# Altium schematic symbol library kmilo17pet-LT_ChargePump.SchLib: 599 symbols (part 23 of 29)
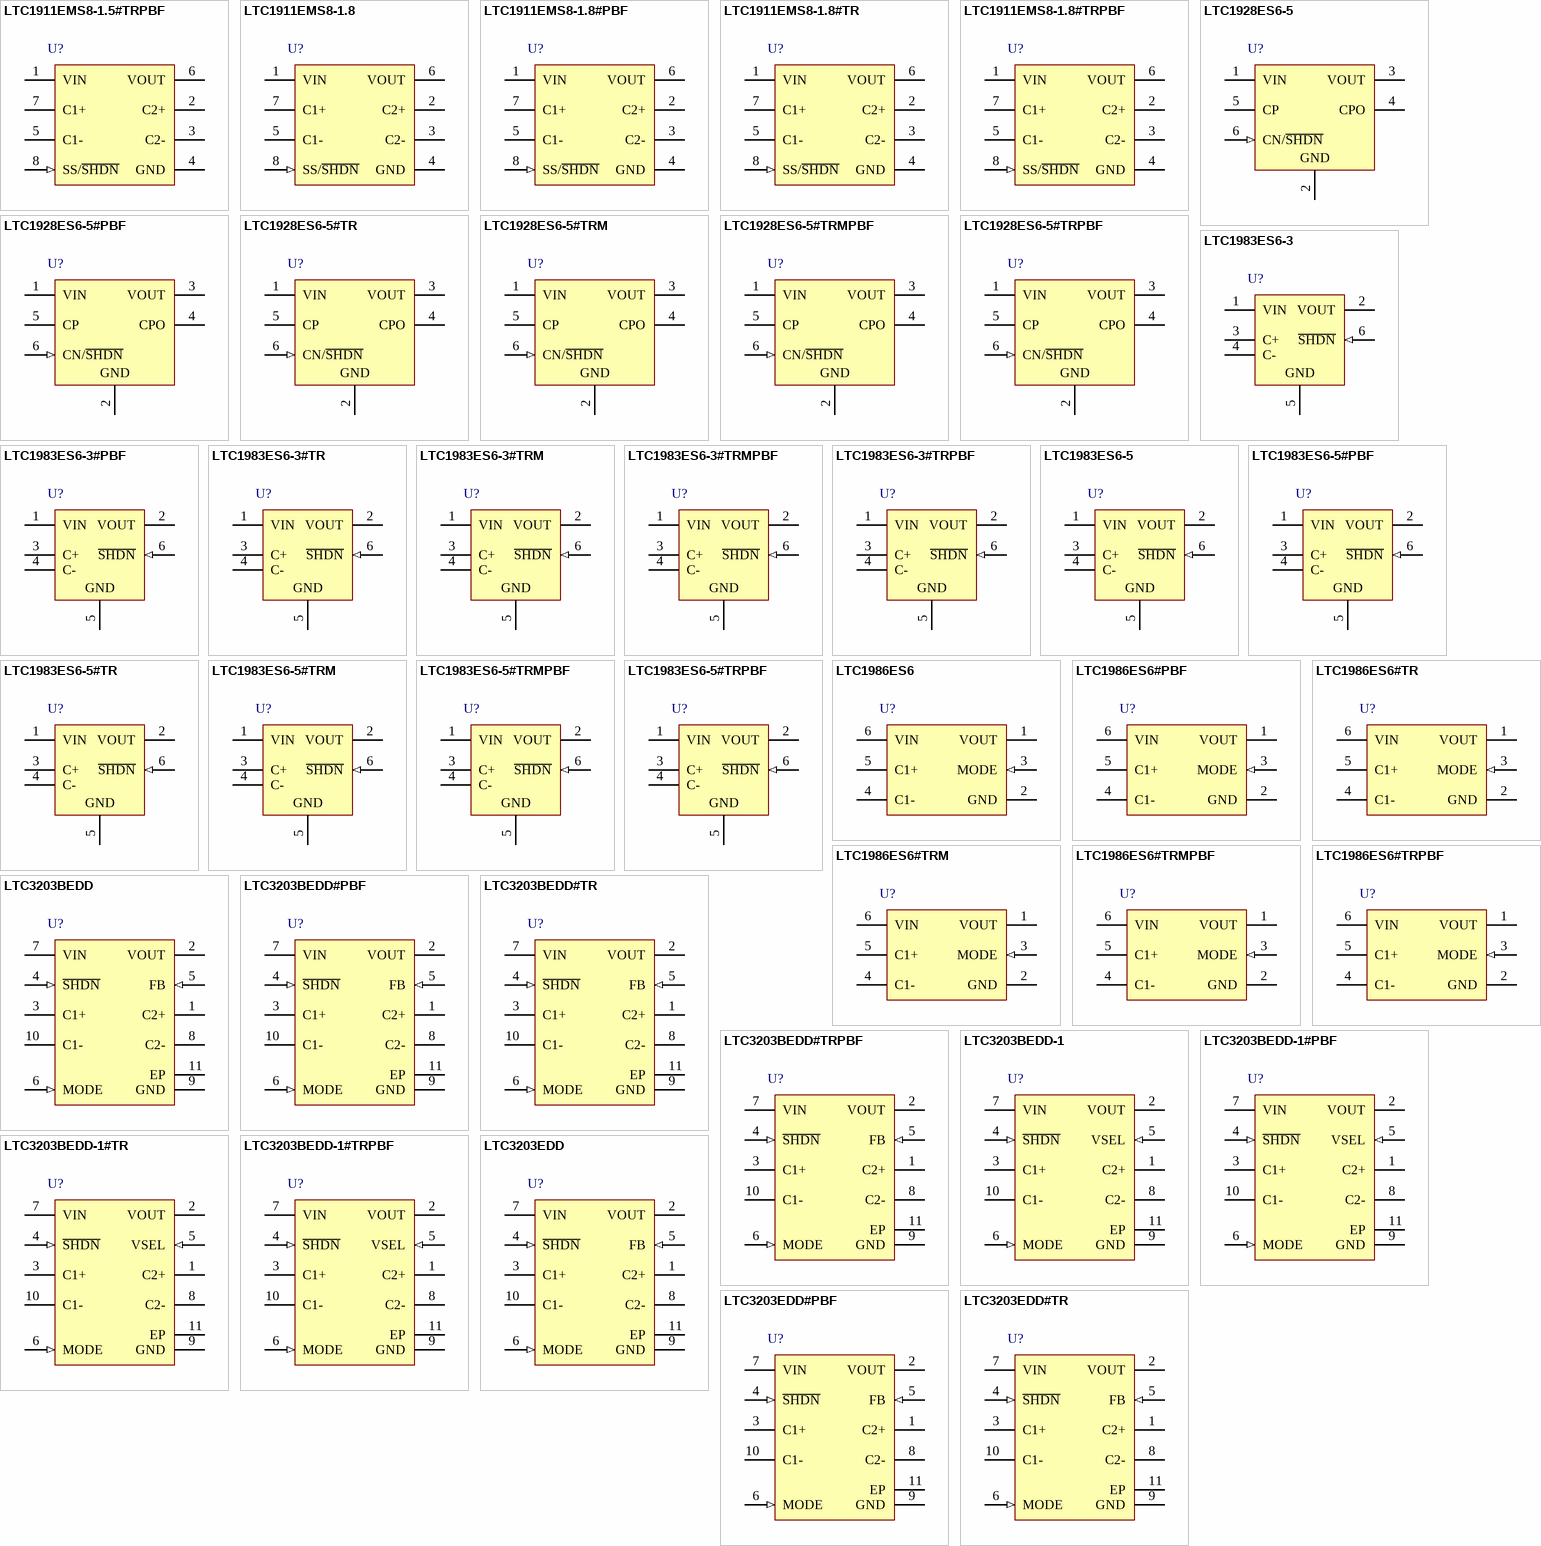
[diagram p38: symbols LTC1911EMS8-1.5#TRPBF to LTC3203EDD#TR]

## LTC3203BEDD#PBF
designator U?
500 mA Output Current Low Noise Dual Mode Step-Up Charge Pump, 2.7 to 5.5 V Vin, Adjustable Vout, 10-pin SON (DD-10), -40 to 85 degC, Pb-Free; Manufacturer: Linear Technology; PartNumber: LTC3203BEDD#PBF; Frequency(kHz): 1000; Isupply(mA): 9; Max Iout(mA): 500; Max Number of LEDs(#): 8 (parallel); Vin Max(V): 5.5; Vin Min(V): 2.7; Voutput: Adj; DatasheetVersion: Rev. A; PackageVersion: Rev. C, 06/2010; PackageReference: DD-10; PackageDescription: 10-Pin Plastic DFN, Body 3 x 3 mm, Pitch 0.5 mm; Supplier 1: Digi-Key; Supplier Part Number 1: LTC3203BEDD#PBF-ND; RoHS: TRUE; Mounting Technology: Surface Mount; Code_JEDEC: MO-229; ComponentLink1Description: Manufacturer URL; ComponentLink1URL: http://www.linear.com/; ComponentLink2Description: Datasheet; ComponentLink2URL: http://cds.linear.com/docs/en/datasheet/32031fa.pdf; ComponentLink3Description: Package Specification; ComponentLink3URL: http://cds.linear.com/docs/en/packaging/DFN_10_05-08-1699.pdf
footprint LT-DD-10_V (SON, 10-Leads, Body 3x3mm, Pitch 0.5mm, Thermal Pad 2.38x1.65mm)
pins: 1 C2+ "Flying Capacitor 2 Positive Terminal (C2).", 2 VOUT (power) "Regulated Output Voltage. VOUT should be bypassed with a low ESR ceramic capacitor as close to the pin as possible for best performance. The capacitor should have greater than 4.7uF capacitance under all conditions.", 3 C1+ "Flying Capacitor 1 Positive Terminal (C1).", 4 ~{SHDN} (in) "Active Low Shutdown Input. A low on S\H\D\N\ puts the LTC3203/LTC3203-1/LTC3203B/LTC3203B-1 in low current shutdown mode. Do not float the S\H\D\N\ pin.", 5 FB (in) "Feedback. The voltage on this pin is compared to the internal reference voltage (0.91V) by the error amplifier to keep the output in regulation. An external resistor divider is required between VOUT and FB to program the (See Datasheet)", 6 MODE (in) "Mode Selection Input. The LTC3203/ LTC3203-1/LTC3203B/LTC3203B-1 operates in 1.5x mode if the MODE pin is greater than VMODEH, which gives higher charge pump efficiency. If the MODE pin is less than VMODEL, the (See Datasheet)", 7 VIN (power) "Input Supply Voltage. VIN should be bypassed with a more than 2.2uF low ESR ceramic capacitor to GND.", 8 C2- "Flying Capacitor 2 Negative Terminal (C2).", 9 GND (power) "Ground. This pin should be connected directly to a low impedance ground plane.", 10 C1- "Flying Capacitor 1 Negative Terminal (C1).", 11 EP (power) "Ground. This pin must be soldered to the PCB for electrical contact and rated thermal performance."

## LTC3203BEDD#TR
designator U?
500 mA Output Current Low Noise Dual Mode Step-Up Charge Pump, 2.7 to 5.5 V Vin, Adjustable Vout, 10-pin SON (DD-10), -40 to 85 degC, Tape and Reel; Manufacturer: Linear Technology; PartNumber: LTC3203BEDD#TR; Frequency(kHz): 1000; Isupply(mA): 9; Max Iout(mA): 500; Max Number of LEDs(#): 8 (parallel); Vin Max(V): 5.5; Vin Min(V): 2.7; Voutput: Adj; DatasheetVersion: Rev. A; PackageVersion: Rev. C, 06/2010; PackageReference: DD-10; PackageDescription: 10-Pin Plastic DFN, Body 3 x 3 mm, Pitch 0.5 mm; Packing: Tape and Reel; RoHS: FALSE; Mounting Technology: Surface Mount; Code_JEDEC: MO-229; ComponentLink1Description: Manufacturer URL; ComponentLink1URL: http://www.linear.com/; ComponentLink2Description: Datasheet; ComponentLink2URL: http://cds.linear.com/docs/en/datasheet/32031fa.pdf; ComponentLink3Description: Package Specification; ComponentLink3URL: http://cds.linear.com/docs/en/packaging/DFN_10_05-08-1699.pdf
footprint LT-DD-10_V (SON, 10-Leads, Body 3x3mm, Pitch 0.5mm, Thermal Pad 2.38x1.65mm)
pins: 1 C2+ "Flying Capacitor 2 Positive Terminal (C2).", 2 VOUT (power) "Regulated Output Voltage. VOUT should be bypassed with a low ESR ceramic capacitor as close to the pin as possible for best performance. The capacitor should have greater than 4.7uF capacitance under all conditions.", 3 C1+ "Flying Capacitor 1 Positive Terminal (C1).", 4 ~{SHDN} (in) "Active Low Shutdown Input. A low on S\H\D\N\ puts the LTC3203/LTC3203-1/LTC3203B/LTC3203B-1 in low current shutdown mode. Do not float the S\H\D\N\ pin.", 5 FB (in) "Feedback. The voltage on this pin is compared to the internal reference voltage (0.91V) by the error amplifier to keep the output in regulation. An external resistor divider is required between VOUT and FB to program the (See Datasheet)", 6 MODE (in) "Mode Selection Input. The LTC3203/ LTC3203-1/LTC3203B/LTC3203B-1 operates in 1.5x mode if the MODE pin is greater than VMODEH, which gives higher charge pump efficiency. If the MODE pin is less than VMODEL, the (See Datasheet)", 7 VIN (power) "Input Supply Voltage. VIN should be bypassed with a more than 2.2uF low ESR ceramic capacitor to GND.", 8 C2- "Flying Capacitor 2 Negative Terminal (C2).", 9 GND (power) "Ground. This pin should be connected directly to a low impedance ground plane.", 10 C1- "Flying Capacitor 1 Negative Terminal (C1).", 11 EP (power) "Ground. This pin must be soldered to the PCB for electrical contact and rated thermal performance."

## LTC3203BEDD#TRPBF
designator U?
500 mA Output Current Low Noise Dual Mode Step-Up Charge Pump, 2.7 to 5.5 V Vin, Adjustable Vout, 10-pin SON (DD-10), -40 to 85 degC, Pb-Free, Tape and Reel; Manufacturer: Linear Technology; PartNumber: LTC3203BEDD#TRPBF; Frequency(kHz): 1000; Isupply(mA): 9; Max Iout(mA): 500; Max Number of LEDs(#): 8 (parallel); Vin Max(V): 5.5; Vin Min(V): 2.7; Voutput: Adj; DatasheetVersion: Rev. A; PackageVersion: Rev. C, 06/2010; PackageReference: DD-10; PackageDescription: 10-Pin Plastic DFN, Body 3 x 3 mm, Pitch 0.5 mm; Supplier 1: Digi-Key; Supplier Part Number 1: LTC3203BEDD#TRPBF-ND; Packing: Tape and Reel; RoHS: TRUE; Mounting Technology: Surface Mount; Code_JEDEC: MO-229; ComponentLink1Description: Manufacturer URL; ComponentLink1URL: http://www.linear.com/; ComponentLink2Description: Datasheet; ComponentLink2URL: http://cds.linear.com/docs/en/datasheet/32031fa.pdf; ComponentLink3Description: Package Specification; ComponentLink3URL: http://cds.linear.com/docs/en/packaging/DFN_10_05-08-1699.pdf
footprint LT-DD-10_V (SON, 10-Leads, Body 3x3mm, Pitch 0.5mm, Thermal Pad 2.38x1.65mm)
pins: 1 C2+ "Flying Capacitor 2 Positive Terminal (C2).", 2 VOUT (power) "Regulated Output Voltage. VOUT should be bypassed with a low ESR ceramic capacitor as close to the pin as possible for best performance. The capacitor should have greater than 4.7uF capacitance under all conditions.", 3 C1+ "Flying Capacitor 1 Positive Terminal (C1).", 4 ~{SHDN} (in) "Active Low Shutdown Input. A low on S\H\D\N\ puts the LTC3203/LTC3203-1/LTC3203B/LTC3203B-1 in low current shutdown mode. Do not float the S\H\D\N\ pin.", 5 FB (in) "Feedback. The voltage on this pin is compared to the internal reference voltage (0.91V) by the error amplifier to keep the output in regulation. An external resistor divider is required between VOUT and FB to program the (See Datasheet)", 6 MODE (in) "Mode Selection Input. The LTC3203/ LTC3203-1/LTC3203B/LTC3203B-1 operates in 1.5x mode if the MODE pin is greater than VMODEH, which gives higher charge pump efficiency. If the MODE pin is less than VMODEL, the (See Datasheet)", 7 VIN (power) "Input Supply Voltage. VIN should be bypassed with a more than 2.2uF low ESR ceramic capacitor to GND.", 8 C2- "Flying Capacitor 2 Negative Terminal (C2).", 9 GND (power) "Ground. This pin should be connected directly to a low impedance ground plane.", 10 C1- "Flying Capacitor 1 Negative Terminal (C1).", 11 EP (power) "Ground. This pin must be soldered to the PCB for electrical contact and rated thermal performance."

## LTC3203BEDD-1
designator U?
500 mA Output Current Low Noise Dual Mode Step-Up Charge Pump, 2.7 to 5.5 V Vin, 5 V Vout, 10-pin SON (DD-10), -40 to 85 degC; Manufacturer: Linear Technology; PartNumber: LTC3203BEDD-1; Frequency(kHz): 1000; Isupply(mA): 9; Max Iout(mA): 500; Max Number of LEDs(#): 8 (parallel); Vin Max(V): 5.5; Vin Min(V): 2.7; Voutput: 5V; DatasheetVersion: Rev. A; PackageVersion: Rev. C, 06/2010; PackageReference: DD-10; PackageDescription: 10-Pin Plastic DFN, Body 3 x 3 mm, Pitch 0.5 mm; RoHS: FALSE; Mounting Technology: Surface Mount; Code_JEDEC: MO-229; ComponentLink1Description: Manufacturer URL; ComponentLink1URL: http://www.linear.com/; ComponentLink2Description: Datasheet; ComponentLink2URL: http://cds.linear.com/docs/en/datasheet/32031fa.pdf; ComponentLink3Description: Package Specification; ComponentLink3URL: http://cds.linear.com/docs/en/packaging/DFN_10_05-08-1699.pdf
footprint LT-DD-10_V (SON, 10-Leads, Body 3x3mm, Pitch 0.5mm, Thermal Pad 2.38x1.65mm)
pins: 1 C2+ "Flying Capacitor 2 Positive Terminal (C2).", 2 VOUT (power) "Regulated Output Voltage. VOUT should be bypassed with a low ESR ceramic capacitor as close to the pin as possible for best performance. The capacitor should have greater than 4.7uF capacitance under all conditions.", 3 C1+ "Flying Capacitor 1 Positive Terminal (C1).", 4 ~{SHDN} (in) "Active Low Shutdown Input. A low on S\H\D\N\ puts the LTC3203/LTC3203-1/LTC3203B/LTC3203B-1 in low current shutdown mode. Do not float the S\H\D\N\ pin.", 5 VSEL (in) "Output Voltage Selection Input. A logic 0 at VSEL sets the regulated VOUT to 4.5V; and a logic 1 sets the regulated VOUT to 5V. Do not float the VSEL pin.", 6 MODE (in) "Mode Selection Input. The LTC3203/ LTC3203-1/LTC3203B/LTC3203B-1 operates in 1.5x mode if the MODE pin is greater than VMODEH, which gives higher charge pump efficiency. If the MODE pin is less than VMODEL, the (See Datasheet)", 7 VIN (power) "Input Supply Voltage. VIN should be bypassed with a more than 2.2uF low ESR ceramic capacitor to GND.", 8 C2- "Flying Capacitor 2 Negative Terminal (C2).", 9 GND (power) "Ground. This pin should be connected directly to a low impedance ground plane.", 10 C1- "Flying Capacitor 1 Negative Terminal (C1).", 11 EP (power) "Ground. This pin must be soldered to the PCB for electrical contact and rated thermal performance."

## LTC3203BEDD-1#PBF
designator U?
500 mA Output Current Low Noise Dual Mode Step-Up Charge Pump, 2.7 to 5.5 V Vin, 5 V Vout, 10-pin SON (DD-10), -40 to 85 degC, Pb-Free; Manufacturer: Linear Technology; PartNumber: LTC3203BEDD-1#PBF; Frequency(kHz): 1000; Isupply(mA): 9; Max Iout(mA): 500; Max Number of LEDs(#): 8 (parallel); Vin Max(V): 5.5; Vin Min(V): 2.7; Voutput: 5V; DatasheetVersion: Rev. A; PackageVersion: Rev. C, 06/2010; PackageReference: DD-10; PackageDescription: 10-Pin Plastic DFN, Body 3 x 3 mm, Pitch 0.5 mm; Supplier 1: Digi-Key; Supplier Part Number 1: LTC3203BEDD-1#PBF-ND; Supplier 2: Newark; Supplier Part Number 2: 56M7339; RoHS: TRUE; Mounting Technology: Surface Mount; Code_JEDEC: MO-229; ComponentLink1Description: Manufacturer URL; ComponentLink1URL: http://www.linear.com/; ComponentLink2Description: Datasheet; ComponentLink2URL: http://cds.linear.com/docs/en/datasheet/32031fa.pdf; ComponentLink3Description: Package Specification; ComponentLink3URL: http://cds.linear.com/docs/en/packaging/DFN_10_05-08-1699.pdf
footprint LT-DD-10_V (SON, 10-Leads, Body 3x3mm, Pitch 0.5mm, Thermal Pad 2.38x1.65mm)
pins: 1 C2+ "Flying Capacitor 2 Positive Terminal (C2).", 2 VOUT (power) "Regulated Output Voltage. VOUT should be bypassed with a low ESR ceramic capacitor as close to the pin as possible for best performance. The capacitor should have greater than 4.7uF capacitance under all conditions.", 3 C1+ "Flying Capacitor 1 Positive Terminal (C1).", 4 ~{SHDN} (in) "Active Low Shutdown Input. A low on S\H\D\N\ puts the LTC3203/LTC3203-1/LTC3203B/LTC3203B-1 in low current shutdown mode. Do not float the S\H\D\N\ pin.", 5 VSEL (in) "Output Voltage Selection Input. A logic 0 at VSEL sets the regulated VOUT to 4.5V; and a logic 1 sets the regulated VOUT to 5V. Do not float the VSEL pin.", 6 MODE (in) "Mode Selection Input. The LTC3203/ LTC3203-1/LTC3203B/LTC3203B-1 operates in 1.5x mode if the MODE pin is greater than VMODEH, which gives higher charge pump efficiency. If the MODE pin is less than VMODEL, the (See Datasheet)", 7 VIN (power) "Input Supply Voltage. VIN should be bypassed with a more than 2.2uF low ESR ceramic capacitor to GND.", 8 C2- "Flying Capacitor 2 Negative Terminal (C2).", 9 GND (power) "Ground. This pin should be connected directly to a low impedance ground plane.", 10 C1- "Flying Capacitor 1 Negative Terminal (C1).", 11 EP (power) "Ground. This pin must be soldered to the PCB for electrical contact and rated thermal performance."

## LTC3203BEDD-1#TR
designator U?
500 mA Output Current Low Noise Dual Mode Step-Up Charge Pump, 2.7 to 5.5 V Vin, 5 V Vout, 10-pin SON (DD-10), -40 to 85 degC, Tape and Reel; Manufacturer: Linear Technology; PartNumber: LTC3203BEDD-1#TR; Frequency(kHz): 1000; Isupply(mA): 9; Max Iout(mA): 500; Max Number of LEDs(#): 8 (parallel); Vin Max(V): 5.5; Vin Min(V): 2.7; Voutput: 5V; DatasheetVersion: Rev. A; PackageVersion: Rev. C, 06/2010; PackageReference: DD-10; PackageDescription: 10-Pin Plastic DFN, Body 3 x 3 mm, Pitch 0.5 mm; Packing: Tape and Reel; RoHS: FALSE; Mounting Technology: Surface Mount; Code_JEDEC: MO-229; ComponentLink1Description: Manufacturer URL; ComponentLink1URL: http://www.linear.com/; ComponentLink2Description: Datasheet; ComponentLink2URL: http://cds.linear.com/docs/en/datasheet/32031fa.pdf; ComponentLink3Description: Package Specification; ComponentLink3URL: http://cds.linear.com/docs/en/packaging/DFN_10_05-08-1699.pdf
footprint LT-DD-10_V (SON, 10-Leads, Body 3x3mm, Pitch 0.5mm, Thermal Pad 2.38x1.65mm)
pins: 1 C2+ "Flying Capacitor 2 Positive Terminal (C2).", 2 VOUT (power) "Regulated Output Voltage. VOUT should be bypassed with a low ESR ceramic capacitor as close to the pin as possible for best performance. The capacitor should have greater than 4.7uF capacitance under all conditions.", 3 C1+ "Flying Capacitor 1 Positive Terminal (C1).", 4 ~{SHDN} (in) "Active Low Shutdown Input. A low on S\H\D\N\ puts the LTC3203/LTC3203-1/LTC3203B/LTC3203B-1 in low current shutdown mode. Do not float the S\H\D\N\ pin.", 5 VSEL (in) "Output Voltage Selection Input. A logic 0 at VSEL sets the regulated VOUT to 4.5V; and a logic 1 sets the regulated VOUT to 5V. Do not float the VSEL pin.", 6 MODE (in) "Mode Selection Input. The LTC3203/ LTC3203-1/LTC3203B/LTC3203B-1 operates in 1.5x mode if the MODE pin is greater than VMODEH, which gives higher charge pump efficiency. If the MODE pin is less than VMODEL, the (See Datasheet)", 7 VIN (power) "Input Supply Voltage. VIN should be bypassed with a more than 2.2uF low ESR ceramic capacitor to GND.", 8 C2- "Flying Capacitor 2 Negative Terminal (C2).", 9 GND (power) "Ground. This pin should be connected directly to a low impedance ground plane.", 10 C1- "Flying Capacitor 1 Negative Terminal (C1).", 11 EP (power) "Ground. This pin must be soldered to the PCB for electrical contact and rated thermal performance."

## LTC3203BEDD-1#TRPBF
designator U?
500 mA Output Current Low Noise Dual Mode Step-Up Charge Pump, 2.7 to 5.5 V Vin, 5 V Vout, 10-pin SON (DD-10), -40 to 85 degC, Pb-Free, Tape and Reel; Manufacturer: Linear Technology; PartNumber: LTC3203BEDD-1#TRPBF; Frequency(kHz): 1000; Isupply(mA): 9; Max Iout(mA): 500; Max Number of LEDs(#): 8 (parallel); Vin Max(V): 5.5; Vin Min(V): 2.7; Voutput: 5V; DatasheetVersion: Rev. A; PackageVersion: Rev. C, 06/2010; PackageReference: DD-10; PackageDescription: 10-Pin Plastic DFN, Body 3 x 3 mm, Pitch 0.5 mm; Supplier 1: Digi-Key; Supplier Part Number 1: LTC3203BEDD-1#TRPBF-ND; Supplier 2: Newark; Supplier Part Number 2: 56M7341; Packing: Tape and Reel; RoHS: TRUE; Mounting Technology: Surface Mount; Code_JEDEC: MO-229; ComponentLink1Description: Manufacturer URL; ComponentLink1URL: http://www.linear.com/; ComponentLink2Description: Datasheet; ComponentLink2URL: http://cds.linear.com/docs/en/datasheet/32031fa.pdf; ComponentLink3Description: Package Specification; ComponentLink3URL: http://cds.linear.com/docs/en/packaging/DFN_10_05-08-1699.pdf
footprint LT-DD-10_V (SON, 10-Leads, Body 3x3mm, Pitch 0.5mm, Thermal Pad 2.38x1.65mm)
pins: 1 C2+ "Flying Capacitor 2 Positive Terminal (C2).", 2 VOUT (power) "Regulated Output Voltage. VOUT should be bypassed with a low ESR ceramic capacitor as close to the pin as possible for best performance. The capacitor should have greater than 4.7uF capacitance under all conditions.", 3 C1+ "Flying Capacitor 1 Positive Terminal (C1).", 4 ~{SHDN} (in) "Active Low Shutdown Input. A low on S\H\D\N\ puts the LTC3203/LTC3203-1/LTC3203B/LTC3203B-1 in low current shutdown mode. Do not float the S\H\D\N\ pin.", 5 VSEL (in) "Output Voltage Selection Input. A logic 0 at VSEL sets the regulated VOUT to 4.5V; and a logic 1 sets the regulated VOUT to 5V. Do not float the VSEL pin.", 6 MODE (in) "Mode Selection Input. The LTC3203/ LTC3203-1/LTC3203B/LTC3203B-1 operates in 1.5x mode if the MODE pin is greater than VMODEH, which gives higher charge pump efficiency. If the MODE pin is less than VMODEL, the (See Datasheet)", 7 VIN (power) "Input Supply Voltage. VIN should be bypassed with a more than 2.2uF low ESR ceramic capacitor to GND.", 8 C2- "Flying Capacitor 2 Negative Terminal (C2).", 9 GND (power) "Ground. This pin should be connected directly to a low impedance ground plane.", 10 C1- "Flying Capacitor 1 Negative Terminal (C1).", 11 EP (power) "Ground. This pin must be soldered to the PCB for electrical contact and rated thermal performance."

## LTC3203EDD
designator U?
500 mA Output Current Low Noise Dual Mode Step-Up Charge Pump, 2.7 to 5.5 V Vin, Adjustable Vout, 10-pin SON (DD-10), -40 to 85 degC; Manufacturer: Linear Technology; PartNumber: LTC3203EDD; Frequency(kHz): 1000; Isupply(mA): 0.12; Max Iout(mA): 500; Max Number of LEDs(#): 8 (parallel); Vin Max(V): 5.5; Vin Min(V): 2.7; Voutput: Adj; DatasheetVersion: Rev. A; PackageVersion: Rev. C, 06/2010; PackageReference: DD-10; PackageDescription: 10-Pin Plastic DFN, Body 3 x 3 mm, Pitch 0.5 mm; RoHS: FALSE; Mounting Technology: Surface Mount; Code_JEDEC: MO-229; ComponentLink1Description: Manufacturer URL; ComponentLink1URL: http://www.linear.com/; ComponentLink2Description: Datasheet; ComponentLink2URL: http://cds.linear.com/docs/en/datasheet/32031fa.pdf; ComponentLink3Description: Package Specification; ComponentLink3URL: http://cds.linear.com/docs/en/packaging/DFN_10_05-08-1699.pdf
footprint LT-DD-10_V (SON, 10-Leads, Body 3x3mm, Pitch 0.5mm, Thermal Pad 2.38x1.65mm)
pins: 1 C2+ "Flying Capacitor 2 Positive Terminal (C2).", 2 VOUT (power) "Regulated Output Voltage. VOUT should be bypassed with a low ESR ceramic capacitor as close to the pin as possible for best performance. The capacitor should have greater than 4.7uF capacitance under all conditions.", 3 C1+ "Flying Capacitor 1 Positive Terminal (C1).", 4 ~{SHDN} (in) "Active Low Shutdown Input. A low on S\H\D\N\ puts the LTC3203/LTC3203-1/LTC3203B/LTC3203B-1 in low current shutdown mode. Do not float the S\H\D\N\ pin.", 5 FB (in) "Feedback. The voltage on this pin is compared to the internal reference voltage (0.91V) by the error amplifier to keep the output in regulation. An external resistor divider is required between VOUT and FB to program the (See Datasheet)", 6 MODE (in) "Mode Selection Input. The LTC3203/ LTC3203-1/LTC3203B/LTC3203B-1 operates in 1.5x mode if the MODE pin is greater than VMODEH, which gives higher charge pump efficiency. If the MODE pin is less than VMODEL, the (See Datasheet)", 7 VIN (power) "Input Supply Voltage. VIN should be bypassed with a more than 2.2uF low ESR ceramic capacitor to GND.", 8 C2- "Flying Capacitor 2 Negative Terminal (C2).", 9 GND (power) "Ground. This pin should be connected directly to a low impedance ground plane.", 10 C1- "Flying Capacitor 1 Negative Terminal (C1).", 11 EP (power) "Ground. This pin must be soldered to the PCB for electrical contact and rated thermal performance."

## LTC3203EDD#PBF
designator U?
500 mA Output Current Low Noise Dual Mode Step-Up Charge Pump, 2.7 to 5.5 V Vin, Adjustable Vout, 10-pin SON (DD-10), -40 to 85 degC, Pb-Free; Manufacturer: Linear Technology; PartNumber: LTC3203EDD#PBF; Frequency(kHz): 1000; Isupply(mA): 0.12; Max Iout(mA): 500; Max Number of LEDs(#): 8 (parallel); Vin Max(V): 5.5; Vin Min(V): 2.7; Voutput: Adj; DatasheetVersion: Rev. A; PackageVersion: Rev. C, 06/2010; PackageReference: DD-10; PackageDescription: 10-Pin Plastic DFN, Body 3 x 3 mm, Pitch 0.5 mm; Supplier 1: Digi-Key; Supplier Part Number 1: LTC3203EDD#PBF-ND; RoHS: TRUE; Mounting Technology: Surface Mount; Code_JEDEC: MO-229; ComponentLink1Description: Manufacturer URL; ComponentLink1URL: http://www.linear.com/; ComponentLink2Description: Datasheet; ComponentLink2URL: http://cds.linear.com/docs/en/datasheet/32031fa.pdf; ComponentLink3Description: Package Specification; ComponentLink3URL: http://cds.linear.com/docs/en/packaging/DFN_10_05-08-1699.pdf
footprint LT-DD-10_V (SON, 10-Leads, Body 3x3mm, Pitch 0.5mm, Thermal Pad 2.38x1.65mm)
pins: 1 C2+ "Flying Capacitor 2 Positive Terminal (C2).", 2 VOUT (power) "Regulated Output Voltage. VOUT should be bypassed with a low ESR ceramic capacitor as close to the pin as possible for best performance. The capacitor should have greater than 4.7uF capacitance under all conditions.", 3 C1+ "Flying Capacitor 1 Positive Terminal (C1).", 4 ~{SHDN} (in) "Active Low Shutdown Input. A low on S\H\D\N\ puts the LTC3203/LTC3203-1/LTC3203B/LTC3203B-1 in low current shutdown mode. Do not float the S\H\D\N\ pin.", 5 FB (in) "Feedback. The voltage on this pin is compared to the internal reference voltage (0.91V) by the error amplifier to keep the output in regulation. An external resistor divider is required between VOUT and FB to program the (See Datasheet)", 6 MODE (in) "Mode Selection Input. The LTC3203/ LTC3203-1/LTC3203B/LTC3203B-1 operates in 1.5x mode if the MODE pin is greater than VMODEH, which gives higher charge pump efficiency. If the MODE pin is less than VMODEL, the (See Datasheet)", 7 VIN (power) "Input Supply Voltage. VIN should be bypassed with a more than 2.2uF low ESR ceramic capacitor to GND.", 8 C2- "Flying Capacitor 2 Negative Terminal (C2).", 9 GND (power) "Ground. This pin should be connected directly to a low impedance ground plane.", 10 C1- "Flying Capacitor 1 Negative Terminal (C1).", 11 EP (power) "Ground. This pin must be soldered to the PCB for electrical contact and rated thermal performance."

## LTC3203EDD#TR
designator U?
500 mA Output Current Low Noise Dual Mode Step-Up Charge Pump, 2.7 to 5.5 V Vin, Adjustable Vout, 10-pin SON (DD-10), -40 to 85 degC, Tape and Reel; Manufacturer: Linear Technology; PartNumber: LTC3203EDD#TR; Frequency(kHz): 1000; Isupply(mA): 0.12; Max Iout(mA): 500; Max Number of LEDs(#): 8 (parallel); Vin Max(V): 5.5; Vin Min(V): 2.7; Voutput: Adj; DatasheetVersion: Rev. A; PackageVersion: Rev. C, 06/2010; PackageReference: DD-10; PackageDescription: 10-Pin Plastic DFN, Body 3 x 3 mm, Pitch 0.5 mm; Packing: Tape and Reel; RoHS: FALSE; Mounting Technology: Surface Mount; Code_JEDEC: MO-229; ComponentLink1Description: Manufacturer URL; ComponentLink1URL: http://www.linear.com/; ComponentLink2Description: Datasheet; ComponentLink2URL: http://cds.linear.com/docs/en/datasheet/32031fa.pdf; ComponentLink3Description: Package Specification; ComponentLink3URL: http://cds.linear.com/docs/en/packaging/DFN_10_05-08-1699.pdf
footprint LT-DD-10_V (SON, 10-Leads, Body 3x3mm, Pitch 0.5mm, Thermal Pad 2.38x1.65mm)
pins: 1 C2+ "Flying Capacitor 2 Positive Terminal (C2).", 2 VOUT (power) "Regulated Output Voltage. VOUT should be bypassed with a low ESR ceramic capacitor as close to the pin as possible for best performance. The capacitor should have greater than 4.7uF capacitance under all conditions.", 3 C1+ "Flying Capacitor 1 Positive Terminal (C1).", 4 ~{SHDN} (in) "Active Low Shutdown Input. A low on S\H\D\N\ puts the LTC3203/LTC3203-1/LTC3203B/LTC3203B-1 in low current shutdown mode. Do not float the S\H\D\N\ pin.", 5 FB (in) "Feedback. The voltage on this pin is compared to the internal reference voltage (0.91V) by the error amplifier to keep the output in regulation. An external resistor divider is required between VOUT and FB to program the (See Datasheet)", 6 MODE (in) "Mode Selection Input. The LTC3203/ LTC3203-1/LTC3203B/LTC3203B-1 operates in 1.5x mode if the MODE pin is greater than VMODEH, which gives higher charge pump efficiency. If the MODE pin is less than VMODEL, the (See Datasheet)", 7 VIN (power) "Input Supply Voltage. VIN should be bypassed with a more than 2.2uF low ESR ceramic capacitor to GND.", 8 C2- "Flying Capacitor 2 Negative Terminal (C2).", 9 GND (power) "Ground. This pin should be connected directly to a low impedance ground plane.", 10 C1- "Flying Capacitor 1 Negative Terminal (C1).", 11 EP (power) "Ground. This pin must be soldered to the PCB for electrical contact and rated thermal performance."

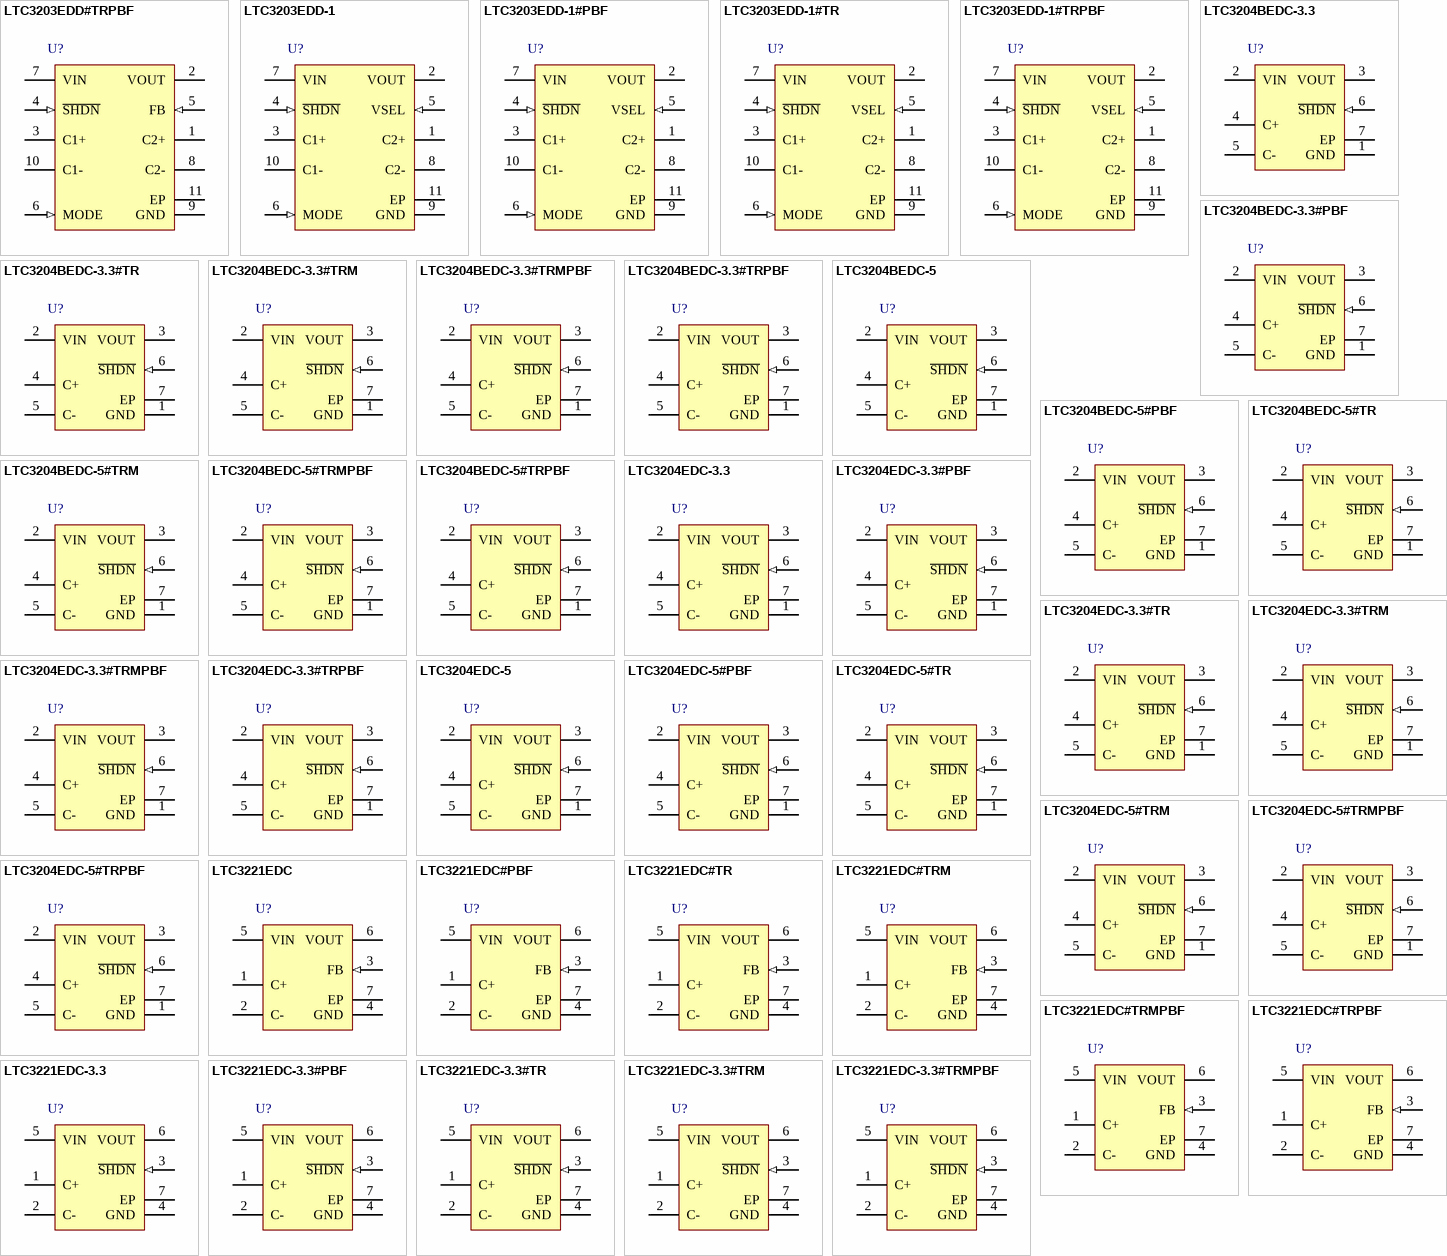
[diagram p13: symbols LTC3203EDD#TRPBF to LTC3221EDC-3.3#TRMPBF]

## LTC3203EDD#TRPBF
designator U?
500 mA Output Current Low Noise Dual Mode Step-Up Charge Pump, 2.7 to 5.5 V Vin, Adjustable Vout, 10-pin SON (DD-10), -40 to 85 degC, Pb-Free, Tape and Reel; Manufacturer: Linear Technology; PartNumber: LTC3203EDD#TRPBF; Frequency(kHz): 1000; Isupply(mA): 0.12; Max Iout(mA): 500; Max Number of LEDs(#): 8 (parallel); Vin Max(V): 5.5; Vin Min(V): 2.7; Voutput: Adj; DatasheetVersion: Rev. A; PackageVersion: Rev. C, 06/2010; PackageReference: DD-10; PackageDescription: 10-Pin Plastic DFN, Body 3 x 3 mm, Pitch 0.5 mm; Supplier 1: Digi-Key; Supplier Part Number 1: LTC3203EDD#TRPBF-ND; Packing: Tape and Reel; RoHS: TRUE; Mounting Technology: Surface Mount; Code_JEDEC: MO-229; ComponentLink1Description: Manufacturer URL; ComponentLink1URL: http://www.linear.com/; ComponentLink2Description: Datasheet; ComponentLink2URL: http://cds.linear.com/docs/en/datasheet/32031fa.pdf; ComponentLink3Description: Package Specification; ComponentLink3URL: http://cds.linear.com/docs/en/packaging/DFN_10_05-08-1699.pdf
footprint LT-DD-10_V (SON, 10-Leads, Body 3x3mm, Pitch 0.5mm, Thermal Pad 2.38x1.65mm)
pins: 1 C2+ "Flying Capacitor 2 Positive Terminal (C2).", 2 VOUT (power) "Regulated Output Voltage. VOUT should be bypassed with a low ESR ceramic capacitor as close to the pin as possible for best performance. The capacitor should have greater than 4.7uF capacitance under all conditions.", 3 C1+ "Flying Capacitor 1 Positive Terminal (C1).", 4 ~{SHDN} (in) "Active Low Shutdown Input. A low on S\H\D\N\ puts the LTC3203/LTC3203-1/LTC3203B/LTC3203B-1 in low current shutdown mode. Do not float the S\H\D\N\ pin.", 5 FB (in) "Feedback. The voltage on this pin is compared to the internal reference voltage (0.91V) by the error amplifier to keep the output in regulation. An external resistor divider is required between VOUT and FB to program the (See Datasheet)", 6 MODE (in) "Mode Selection Input. The LTC3203/ LTC3203-1/LTC3203B/LTC3203B-1 operates in 1.5x mode if the MODE pin is greater than VMODEH, which gives higher charge pump efficiency. If the MODE pin is less than VMODEL, the (See Datasheet)", 7 VIN (power) "Input Supply Voltage. VIN should be bypassed with a more than 2.2uF low ESR ceramic capacitor to GND.", 8 C2- "Flying Capacitor 2 Negative Terminal (C2).", 9 GND (power) "Ground. This pin should be connected directly to a low impedance ground plane.", 10 C1- "Flying Capacitor 1 Negative Terminal (C1).", 11 EP (power) "Ground. This pin must be soldered to the PCB for electrical contact and rated thermal performance."

## LTC3203EDD-1
designator U?
500 mA Output Current Low Noise Dual Mode Step-Up Charge Pump, 2.7 to 5.5 V Vin, 5 V Vout, 10-pin SON (DD-10), -40 to 85 degC; Manufacturer: Linear Technology; PartNumber: LTC3203EDD-1; Frequency(kHz): 1000; Isupply(mA): 0.12; Max Iout(mA): 500; Max Number of LEDs(#): 8 (parallel); Vin Max(V): 5.5; Vin Min(V): 2.7; Voutput: 5V; DatasheetVersion: Rev. A; PackageVersion: Rev. C, 06/2010; PackageReference: DD-10; PackageDescription: 10-Pin Plastic DFN, Body 3 x 3 mm, Pitch 0.5 mm; RoHS: FALSE; Mounting Technology: Surface Mount; Code_JEDEC: MO-229; ComponentLink1Description: Manufacturer URL; ComponentLink1URL: http://www.linear.com/; ComponentLink2Description: Datasheet; ComponentLink2URL: http://cds.linear.com/docs/en/datasheet/32031fa.pdf; ComponentLink3Description: Package Specification; ComponentLink3URL: http://cds.linear.com/docs/en/packaging/DFN_10_05-08-1699.pdf
footprint LT-DD-10_V (SON, 10-Leads, Body 3x3mm, Pitch 0.5mm, Thermal Pad 2.38x1.65mm)
pins: 1 C2+ "Flying Capacitor 2 Positive Terminal (C2).", 2 VOUT (power) "Regulated Output Voltage. VOUT should be bypassed with a low ESR ceramic capacitor as close to the pin as possible for best performance. The capacitor should have greater than 4.7uF capacitance under all conditions.", 3 C1+ "Flying Capacitor 1 Positive Terminal (C1).", 4 ~{SHDN} (in) "Active Low Shutdown Input. A low on S\H\D\N\ puts the LTC3203/LTC3203-1/LTC3203B/LTC3203B-1 in low current shutdown mode. Do not float the S\H\D\N\ pin.", 5 VSEL (in) "Output Voltage Selection Input. A logic 0 at VSEL sets the regulated VOUT to 4.5V; and a logic 1 sets the regulated VOUT to 5V. Do not float the VSEL pin.", 6 MODE (in) "Mode Selection Input. The LTC3203/ LTC3203-1/LTC3203B/LTC3203B-1 operates in 1.5x mode if the MODE pin is greater than VMODEH, which gives higher charge pump efficiency. If the MODE pin is less than VMODEL, the (See Datasheet)", 7 VIN (power) "Input Supply Voltage. VIN should be bypassed with a more than 2.2uF low ESR ceramic capacitor to GND.", 8 C2- "Flying Capacitor 2 Negative Terminal (C2).", 9 GND (power) "Ground. This pin should be connected directly to a low impedance ground plane.", 10 C1- "Flying Capacitor 1 Negative Terminal (C1).", 11 EP (power) "Ground. This pin must be soldered to the PCB for electrical contact and rated thermal performance."

## LTC3203EDD-1#PBF
designator U?
500 mA Output Current Low Noise Dual Mode Step-Up Charge Pump, 2.7 to 5.5 V Vin, 5 V Vout, 10-pin SON (DD-10), -40 to 85 degC, Pb-Free; Manufacturer: Linear Technology; PartNumber: LTC3203EDD-1#PBF; Frequency(kHz): 1000; Isupply(mA): 0.12; Max Iout(mA): 500; Max Number of LEDs(#): 8 (parallel); Vin Max(V): 5.5; Vin Min(V): 2.7; Voutput: 5V; DatasheetVersion: Rev. A; PackageVersion: Rev. C, 06/2010; PackageReference: DD-10; PackageDescription: 10-Pin Plastic DFN, Body 3 x 3 mm, Pitch 0.5 mm; Supplier 1: Digi-Key; Supplier Part Number 1: LTC3203EDD-1#PBF-ND; Supplier 2: Farnell; Supplier Part Number 2: 2295022; Supplier 3: Newark; Supplier Part Number 3: 56M7347; RoHS: TRUE; Mounting Technology: Surface Mount; Code_JEDEC: MO-229; ComponentLink1Description: Manufacturer URL; ComponentLink1URL: http://www.linear.com/; ComponentLink2Description: Datasheet; ComponentLink2URL: http://cds.linear.com/docs/en/datasheet/32031fa.pdf; ComponentLink3Description: Package Specification; ComponentLink3URL: http://cds.linear.com/docs/en/packaging/DFN_10_05-08-1699.pdf
footprint LT-DD-10_V (SON, 10-Leads, Body 3x3mm, Pitch 0.5mm, Thermal Pad 2.38x1.65mm)
pins: 1 C2+ "Flying Capacitor 2 Positive Terminal (C2).", 2 VOUT (power) "Regulated Output Voltage. VOUT should be bypassed with a low ESR ceramic capacitor as close to the pin as possible for best performance. The capacitor should have greater than 4.7uF capacitance under all conditions.", 3 C1+ "Flying Capacitor 1 Positive Terminal (C1).", 4 ~{SHDN} (in) "Active Low Shutdown Input. A low on S\H\D\N\ puts the LTC3203/LTC3203-1/LTC3203B/LTC3203B-1 in low current shutdown mode. Do not float the S\H\D\N\ pin.", 5 VSEL (in) "Output Voltage Selection Input. A logic 0 at VSEL sets the regulated VOUT to 4.5V; and a logic 1 sets the regulated VOUT to 5V. Do not float the VSEL pin.", 6 MODE (in) "Mode Selection Input. The LTC3203/ LTC3203-1/LTC3203B/LTC3203B-1 operates in 1.5x mode if the MODE pin is greater than VMODEH, which gives higher charge pump efficiency. If the MODE pin is less than VMODEL, the (See Datasheet)", 7 VIN (power) "Input Supply Voltage. VIN should be bypassed with a more than 2.2uF low ESR ceramic capacitor to GND.", 8 C2- "Flying Capacitor 2 Negative Terminal (C2).", 9 GND (power) "Ground. This pin should be connected directly to a low impedance ground plane.", 10 C1- "Flying Capacitor 1 Negative Terminal (C1).", 11 EP (power) "Ground. This pin must be soldered to the PCB for electrical contact and rated thermal performance."

## LTC3203EDD-1#TR
designator U?
500 mA Output Current Low Noise Dual Mode Step-Up Charge Pump, 2.7 to 5.5 V Vin, 5 V Vout, 10-pin SON (DD-10), -40 to 85 degC, Tape and Reel; Manufacturer: Linear Technology; PartNumber: LTC3203EDD-1#TR; Frequency(kHz): 1000; Isupply(mA): 0.12; Max Iout(mA): 500; Max Number of LEDs(#): 8 (parallel); Vin Max(V): 5.5; Vin Min(V): 2.7; Voutput: 5V; DatasheetVersion: Rev. A; PackageVersion: Rev. C, 06/2010; PackageReference: DD-10; PackageDescription: 10-Pin Plastic DFN, Body 3 x 3 mm, Pitch 0.5 mm; Packing: Tape and Reel; RoHS: FALSE; Mounting Technology: Surface Mount; Code_JEDEC: MO-229; ComponentLink1Description: Manufacturer URL; ComponentLink1URL: http://www.linear.com/; ComponentLink2Description: Datasheet; ComponentLink2URL: http://cds.linear.com/docs/en/datasheet/32031fa.pdf; ComponentLink3Description: Package Specification; ComponentLink3URL: http://cds.linear.com/docs/en/packaging/DFN_10_05-08-1699.pdf
footprint LT-DD-10_V (SON, 10-Leads, Body 3x3mm, Pitch 0.5mm, Thermal Pad 2.38x1.65mm)
pins: 1 C2+ "Flying Capacitor 2 Positive Terminal (C2).", 2 VOUT (power) "Regulated Output Voltage. VOUT should be bypassed with a low ESR ceramic capacitor as close to the pin as possible for best performance. The capacitor should have greater than 4.7uF capacitance under all conditions.", 3 C1+ "Flying Capacitor 1 Positive Terminal (C1).", 4 ~{SHDN} (in) "Active Low Shutdown Input. A low on S\H\D\N\ puts the LTC3203/LTC3203-1/LTC3203B/LTC3203B-1 in low current shutdown mode. Do not float the S\H\D\N\ pin.", 5 VSEL (in) "Output Voltage Selection Input. A logic 0 at VSEL sets the regulated VOUT to 4.5V; and a logic 1 sets the regulated VOUT to 5V. Do not float the VSEL pin.", 6 MODE (in) "Mode Selection Input. The LTC3203/ LTC3203-1/LTC3203B/LTC3203B-1 operates in 1.5x mode if the MODE pin is greater than VMODEH, which gives higher charge pump efficiency. If the MODE pin is less than VMODEL, the (See Datasheet)", 7 VIN (power) "Input Supply Voltage. VIN should be bypassed with a more than 2.2uF low ESR ceramic capacitor to GND.", 8 C2- "Flying Capacitor 2 Negative Terminal (C2).", 9 GND (power) "Ground. This pin should be connected directly to a low impedance ground plane.", 10 C1- "Flying Capacitor 1 Negative Terminal (C1).", 11 EP (power) "Ground. This pin must be soldered to the PCB for electrical contact and rated thermal performance."

## LTC3203EDD-1#TRPBF
designator U?
500 mA Output Current Low Noise Dual Mode Step-Up Charge Pump, 2.7 to 5.5 V Vin, 5 V Vout, 10-pin SON (DD-10), -40 to 85 degC, Pb-Free, Tape and Reel; Manufacturer: Linear Technology; PartNumber: LTC3203EDD-1#TRPBF; Frequency(kHz): 1000; Isupply(mA): 0.12; Max Iout(mA): 500; Max Number of LEDs(#): 8 (parallel); Vin Max(V): 5.5; Vin Min(V): 2.7; Voutput: 5V; DatasheetVersion: Rev. A; PackageVersion: Rev. C, 06/2010; PackageReference: DD-10; PackageDescription: 10-Pin Plastic DFN, Body 3 x 3 mm, Pitch 0.5 mm; Supplier 1: Digi-Key; Supplier Part Number 1: LTC3203EDD-1#TRPBF-ND; Packing: Tape and Reel; RoHS: TRUE; Mounting Technology: Surface Mount; Code_JEDEC: MO-229; ComponentLink1Description: Manufacturer URL; ComponentLink1URL: http://www.linear.com/; ComponentLink2Description: Datasheet; ComponentLink2URL: http://cds.linear.com/docs/en/datasheet/32031fa.pdf; ComponentLink3Description: Package Specification; ComponentLink3URL: http://cds.linear.com/docs/en/packaging/DFN_10_05-08-1699.pdf
footprint LT-DD-10_V (SON, 10-Leads, Body 3x3mm, Pitch 0.5mm, Thermal Pad 2.38x1.65mm)
pins: 1 C2+ "Flying Capacitor 2 Positive Terminal (C2).", 2 VOUT (power) "Regulated Output Voltage. VOUT should be bypassed with a low ESR ceramic capacitor as close to the pin as possible for best performance. The capacitor should have greater than 4.7uF capacitance under all conditions.", 3 C1+ "Flying Capacitor 1 Positive Terminal (C1).", 4 ~{SHDN} (in) "Active Low Shutdown Input. A low on S\H\D\N\ puts the LTC3203/LTC3203-1/LTC3203B/LTC3203B-1 in low current shutdown mode. Do not float the S\H\D\N\ pin.", 5 VSEL (in) "Output Voltage Selection Input. A logic 0 at VSEL sets the regulated VOUT to 4.5V; and a logic 1 sets the regulated VOUT to 5V. Do not float the VSEL pin.", 6 MODE (in) "Mode Selection Input. The LTC3203/ LTC3203-1/LTC3203B/LTC3203B-1 operates in 1.5x mode if the MODE pin is greater than VMODEH, which gives higher charge pump efficiency. If the MODE pin is less than VMODEL, the (See Datasheet)", 7 VIN (power) "Input Supply Voltage. VIN should be bypassed with a more than 2.2uF low ESR ceramic capacitor to GND.", 8 C2- "Flying Capacitor 2 Negative Terminal (C2).", 9 GND (power) "Ground. This pin should be connected directly to a low impedance ground plane.", 10 C1- "Flying Capacitor 1 Negative Terminal (C1).", 11 EP (power) "Ground. This pin must be soldered to the PCB for electrical contact and rated thermal performance."

## LTC3204BEDC-3.3
designator U?
Low Noise Regulated Charge Pump, 1.8 to 4.5 V Vin, 3.3 V Vout, 6-pin SON (DC6-6), -40 to 85 degC; Manufacturer: Linear Technology; PartNumber: LTC3204BEDC-3.3; Frequency(kHz): 1200; Isupply(mA): 0.048; Max Iout(mA): 50; Vin Max(V): 4.5; Vin Min(V): 1.8; Voutput: 3.3V; PackageVersion: Rev. B, 06/2010; PackageReference: DC6-6; PackageDescription: 6-Pin Plastic DFN, Body 2 x 2 mm, Pitch 0.5 mm; RoHS: FALSE; Mounting Technology: Surface Mount; Code_JEDEC: MO-229; ComponentLink1Description: Manufacturer URL; ComponentLink1URL: http://www.linear.com/; ComponentLink2Description: Datasheet; ComponentLink2URL: http://cds.linear.com/docs/en/datasheet/3204fa.pdf; ComponentLink3Description: Package Specification; ComponentLink3URL: http://cds.linear.com/docs/en/packaging/DFN_6_05-08-1703.pdf
footprint LT-DC6-6_V (SON, 6-Leads, Body 2x2mm, Pitch 0.5mm, Thermal Pad 1.42x0.61mm)
pins: 1 GND (power) "Ground.", 2 VIN (power) "Input Supply Voltage.", 3 VOUT (power) "Regulated Output Voltage.", 4 C+ "Flying Capacitor Positive Terminal.", 5 C- "Flying Capacitor Negative Terminal.", 6 ~{SHDN} (in), 7 EP (power) "Ground."

## LTC3204BEDC-3.3#PBF
designator U?
Low Noise Regulated Charge Pump, 1.8 to 4.5 V Vin, 3.3 V Vout, 6-pin SON (DC6-6), -40 to 85 degC, Pb-Free; Manufacturer: Linear Technology; PartNumber: LTC3204BEDC-3.3#PBF; Frequency(kHz): 1200; Isupply(mA): 0.048; Max Iout(mA): 50; Vin Max(V): 4.5; Vin Min(V): 1.8; Voutput: 3.3V; PackageVersion: Rev. B, 06/2010; PackageReference: DC6-6; PackageDescription: 6-Pin Plastic DFN, Body 2 x 2 mm, Pitch 0.5 mm; RoHS: TRUE; Mounting Technology: Surface Mount; Code_JEDEC: MO-229; ComponentLink1Description: Manufacturer URL; ComponentLink1URL: http://www.linear.com/; ComponentLink2Description: Datasheet; ComponentLink2URL: http://cds.linear.com/docs/en/datasheet/3204fa.pdf; ComponentLink3Description: Package Specification; ComponentLink3URL: http://cds.linear.com/docs/en/packaging/DFN_6_05-08-1703.pdf
footprint LT-DC6-6_V (SON, 6-Leads, Body 2x2mm, Pitch 0.5mm, Thermal Pad 1.42x0.61mm)
pins: 1 GND (power) "Ground.", 2 VIN (power) "Input Supply Voltage.", 3 VOUT (power) "Regulated Output Voltage.", 4 C+ "Flying Capacitor Positive Terminal.", 5 C- "Flying Capacitor Negative Terminal.", 6 ~{SHDN} (in), 7 EP (power) "Ground."

## LTC3204BEDC-3.3#TR
designator U?
Low Noise Regulated Charge Pump, 1.8 to 4.5 V Vin, 3.3 V Vout, 6-pin SON (DC6-6), -40 to 85 degC, Tape and Reel; Manufacturer: Linear Technology; PartNumber: LTC3204BEDC-3.3#TR; Frequency(kHz): 1200; Isupply(mA): 0.048; Max Iout(mA): 50; Vin Max(V): 4.5; Vin Min(V): 1.8; Voutput: 3.3V; PackageVersion: Rev. B, 06/2010; PackageReference: DC6-6; PackageDescription: 6-Pin Plastic DFN, Body 2 x 2 mm, Pitch 0.5 mm; Supplier 1: Digi-Key; Supplier Part Number 1: LTC3204BEDC-3.3#TR-ND; Packing: Tape and Reel; RoHS: FALSE; Mounting Technology: Surface Mount; Code_JEDEC: MO-229; ComponentLink1Description: Manufacturer URL; ComponentLink1URL: http://www.linear.com/; ComponentLink2Description: Datasheet; ComponentLink2URL: http://cds.linear.com/docs/en/datasheet/3204fa.pdf; ComponentLink3Description: Package Specification; ComponentLink3URL: http://cds.linear.com/docs/en/packaging/DFN_6_05-08-1703.pdf
footprint LT-DC6-6_V (SON, 6-Leads, Body 2x2mm, Pitch 0.5mm, Thermal Pad 1.42x0.61mm)
pins: 1 GND (power) "Ground.", 2 VIN (power) "Input Supply Voltage.", 3 VOUT (power) "Regulated Output Voltage.", 4 C+ "Flying Capacitor Positive Terminal.", 5 C- "Flying Capacitor Negative Terminal.", 6 ~{SHDN} (in), 7 EP (power) "Ground."

## LTC3204BEDC-3.3#TRM
designator U?
Low Noise Regulated Charge Pump, 1.8 to 4.5 V Vin, 3.3 V Vout, 6-pin SON (DC6-6), -40 to 85 degC, Mini Tape and Reel; Manufacturer: Linear Technology; PartNumber: LTC3204BEDC-3.3#TRM; Frequency(kHz): 1200; Isupply(mA): 0.048; Max Iout(mA): 50; Vin Max(V): 4.5; Vin Min(V): 1.8; Voutput: 3.3V; PackageVersion: Rev. B, 06/2010; PackageReference: DC6-6; PackageDescription: 6-Pin Plastic DFN, Body 2 x 2 mm, Pitch 0.5 mm; Supplier 1: Digi-Key; Supplier Part Number 1: LTC3204BEDC-3.3#TRM-ND; Packing: Mini Tape and Reel; RoHS: FALSE; Mounting Technology: Surface Mount; Code_JEDEC: MO-229; ComponentLink1Description: Manufacturer URL; ComponentLink1URL: http://www.linear.com/; ComponentLink2Description: Datasheet; ComponentLink2URL: http://cds.linear.com/docs/en/datasheet/3204fa.pdf; ComponentLink3Description: Package Specification; ComponentLink3URL: http://cds.linear.com/docs/en/packaging/DFN_6_05-08-1703.pdf
footprint LT-DC6-6_V (SON, 6-Leads, Body 2x2mm, Pitch 0.5mm, Thermal Pad 1.42x0.61mm)
pins: 1 GND (power) "Ground.", 2 VIN (power) "Input Supply Voltage.", 3 VOUT (power) "Regulated Output Voltage.", 4 C+ "Flying Capacitor Positive Terminal.", 5 C- "Flying Capacitor Negative Terminal.", 6 ~{SHDN} (in), 7 EP (power) "Ground."

## LTC3204BEDC-3.3#TRMPBF
designator U?
Low Noise Regulated Charge Pump, 1.8 to 4.5 V Vin, 3.3 V Vout, 6-pin SON (DC6-6), -40 to 85 degC, Pb-Free, Mini Tape and Reel; Manufacturer: Linear Technology; PartNumber: LTC3204BEDC-3.3#TRMPBF; Frequency(kHz): 1200; Isupply(mA): 0.048; Max Iout(mA): 50; Vin Max(V): 4.5; Vin Min(V): 1.8; Voutput: 3.3V; PackageVersion: Rev. B, 06/2010; PackageReference: DC6-6; PackageDescription: 6-Pin Plastic DFN, Body 2 x 2 mm, Pitch 0.5 mm; Supplier 1: Digi-Key; Supplier Part Number 1: LTC3204BEDC-3.3#TRMPBFTR-ND; Supplier 2: Digi-Key; Supplier Part Number 2: LTC3204BEDC-3.3#TRMPBFCT-ND; Supplier 3: Digi-Key; Supplier Part Number 3: LTC3204BEDC-3.3#TRMPBFDKR-ND; Packing: Mini Tape and Reel; RoHS: TRUE; Mounting Technology: Surface Mount; Code_JEDEC: MO-229; ComponentLink1Description: Manufacturer URL; ComponentLink1URL: http://www.linear.com/; ComponentLink2Description: Datasheet; ComponentLink2URL: http://cds.linear.com/docs/en/datasheet/3204fa.pdf; ComponentLink3Description: Package Specification; ComponentLink3URL: http://cds.linear.com/docs/en/packaging/DFN_6_05-08-1703.pdf
footprint LT-DC6-6_V (SON, 6-Leads, Body 2x2mm, Pitch 0.5mm, Thermal Pad 1.42x0.61mm)
pins: 1 GND (power) "Ground.", 2 VIN (power) "Input Supply Voltage.", 3 VOUT (power) "Regulated Output Voltage.", 4 C+ "Flying Capacitor Positive Terminal.", 5 C- "Flying Capacitor Negative Terminal.", 6 ~{SHDN} (in), 7 EP (power) "Ground."

## LTC3204BEDC-3.3#TRPBF
designator U?
Low Noise Regulated Charge Pump, 1.8 to 4.5 V Vin, 3.3 V Vout, 6-pin SON (DC6-6), -40 to 85 degC, Pb-Free, Tape and Reel; Manufacturer: Linear Technology; PartNumber: LTC3204BEDC-3.3#TRPBF; Frequency(kHz): 1200; Isupply(mA): 0.048; Max Iout(mA): 50; Vin Max(V): 4.5; Vin Min(V): 1.8; Voutput: 3.3V; PackageVersion: Rev. B, 06/2010; PackageReference: DC6-6; PackageDescription: 6-Pin Plastic DFN, Body 2 x 2 mm, Pitch 0.5 mm; Supplier 1: Digi-Key; Supplier Part Number 1: LTC3204BEDC-3.3#TRPBF-ND; Packing: Tape and Reel; RoHS: TRUE; Mounting Technology: Surface Mount; Code_JEDEC: MO-229; ComponentLink1Description: Manufacturer URL; ComponentLink1URL: http://www.linear.com/; ComponentLink2Description: Datasheet; ComponentLink2URL: http://cds.linear.com/docs/en/datasheet/3204fa.pdf; ComponentLink3Description: Package Specification; ComponentLink3URL: http://cds.linear.com/docs/en/packaging/DFN_6_05-08-1703.pdf
footprint LT-DC6-6_V (SON, 6-Leads, Body 2x2mm, Pitch 0.5mm, Thermal Pad 1.42x0.61mm)
pins: 1 GND (power) "Ground.", 2 VIN (power) "Input Supply Voltage.", 3 VOUT (power) "Regulated Output Voltage.", 4 C+ "Flying Capacitor Positive Terminal.", 5 C- "Flying Capacitor Negative Terminal.", 6 ~{SHDN} (in), 7 EP (power) "Ground."

## LTC3204BEDC-5
designator U?
Low Noise Regulated Charge Pump, 2.7 to 5.5 V Vin, 5 V Vout, 6-pin SON (DC6-6), -40 to 85 degC; Manufacturer: Linear Technology; PartNumber: LTC3204BEDC-5; Frequency(kHz): 1200; Isupply(mA): 0.048; Max Iout(mA): 150; Vin Max(V): 5.5; Vin Min(V): 2.7; Voutput: 5V; PackageVersion: Rev. B, 06/2010; PackageReference: DC6-6; PackageDescription: 6-Pin Plastic DFN, Body 2 x 2 mm, Pitch 0.5 mm; RoHS: FALSE; Mounting Technology: Surface Mount; Code_JEDEC: MO-229; ComponentLink1Description: Manufacturer URL; ComponentLink1URL: http://www.linear.com/; ComponentLink2Description: Datasheet; ComponentLink2URL: http://cds.linear.com/docs/en/datasheet/3204fa.pdf; ComponentLink3Description: Package Specification; ComponentLink3URL: http://cds.linear.com/docs/en/packaging/DFN_6_05-08-1703.pdf
footprint LT-DC6-6_V (SON, 6-Leads, Body 2x2mm, Pitch 0.5mm, Thermal Pad 1.42x0.61mm)
pins: 1 GND (power) "Ground.", 2 VIN (power) "Input Supply Voltage.", 3 VOUT (power) "Regulated Output Voltage.", 4 C+ "Flying Capacitor Positive Terminal.", 5 C- "Flying Capacitor Negative Terminal.", 6 ~{SHDN} (in), 7 EP (power) "Ground."

## LTC3204BEDC-5#PBF
designator U?
Low Noise Regulated Charge Pump, 2.7 to 5.5 V Vin, 5 V Vout, 6-pin SON (DC6-6), -40 to 85 degC, Pb-Free; Manufacturer: Linear Technology; PartNumber: LTC3204BEDC-5#PBF; Frequency(kHz): 1200; Isupply(mA): 0.048; Max Iout(mA): 150; Vin Max(V): 5.5; Vin Min(V): 2.7; Voutput: 5V; PackageVersion: Rev. B, 06/2010; PackageReference: DC6-6; PackageDescription: 6-Pin Plastic DFN, Body 2 x 2 mm, Pitch 0.5 mm; Supplier 1: Farnell; Supplier Part Number 1: 2308140; Supplier 2: Newark; Supplier Part Number 2: 78T3159; RoHS: TRUE; Mounting Technology: Surface Mount; Code_JEDEC: MO-229; ComponentLink1Description: Manufacturer URL; ComponentLink1URL: http://www.linear.com/; ComponentLink2Description: Datasheet; ComponentLink2URL: http://cds.linear.com/docs/en/datasheet/3204fa.pdf; ComponentLink3Description: Package Specification; ComponentLink3URL: http://cds.linear.com/docs/en/packaging/DFN_6_05-08-1703.pdf
footprint LT-DC6-6_V (SON, 6-Leads, Body 2x2mm, Pitch 0.5mm, Thermal Pad 1.42x0.61mm)
pins: 1 GND (power) "Ground.", 2 VIN (power) "Input Supply Voltage.", 3 VOUT (power) "Regulated Output Voltage.", 4 C+ "Flying Capacitor Positive Terminal.", 5 C- "Flying Capacitor Negative Terminal.", 6 ~{SHDN} (in), 7 EP (power) "Ground."

## LTC3204BEDC-5#TR
designator U?
Low Noise Regulated Charge Pump, 2.7 to 5.5 V Vin, 5 V Vout, 6-pin SON (DC6-6), -40 to 85 degC, Tape and Reel; Manufacturer: Linear Technology; PartNumber: LTC3204BEDC-5#TR; Frequency(kHz): 1200; Isupply(mA): 0.048; Max Iout(mA): 150; Vin Max(V): 5.5; Vin Min(V): 2.7; Voutput: 5V; PackageVersion: Rev. B, 06/2010; PackageReference: DC6-6; PackageDescription: 6-Pin Plastic DFN, Body 2 x 2 mm, Pitch 0.5 mm; Supplier 1: Digi-Key; Supplier Part Number 1: LTC3204BEDC-5#TR-ND; Packing: Tape and Reel; RoHS: FALSE; Mounting Technology: Surface Mount; Code_JEDEC: MO-229; ComponentLink1Description: Manufacturer URL; ComponentLink1URL: http://www.linear.com/; ComponentLink2Description: Datasheet; ComponentLink2URL: http://cds.linear.com/docs/en/datasheet/3204fa.pdf; ComponentLink3Description: Package Specification; ComponentLink3URL: http://cds.linear.com/docs/en/packaging/DFN_6_05-08-1703.pdf
footprint LT-DC6-6_V (SON, 6-Leads, Body 2x2mm, Pitch 0.5mm, Thermal Pad 1.42x0.61mm)
pins: 1 GND (power) "Ground.", 2 VIN (power) "Input Supply Voltage.", 3 VOUT (power) "Regulated Output Voltage.", 4 C+ "Flying Capacitor Positive Terminal.", 5 C- "Flying Capacitor Negative Terminal.", 6 ~{SHDN} (in), 7 EP (power) "Ground."

## LTC3204BEDC-5#TRM
designator U?
Low Noise Regulated Charge Pump, 2.7 to 5.5 V Vin, 5 V Vout, 6-pin SON (DC6-6), -40 to 85 degC, Mini Tape and Reel; Manufacturer: Linear Technology; PartNumber: LTC3204BEDC-5#TRM; Frequency(kHz): 1200; Isupply(mA): 0.048; Max Iout(mA): 150; Vin Max(V): 5.5; Vin Min(V): 2.7; Voutput: 5V; PackageVersion: Rev. B, 06/2010; PackageReference: DC6-6; PackageDescription: 6-Pin Plastic DFN, Body 2 x 2 mm, Pitch 0.5 mm; Supplier 1: Digi-Key; Supplier Part Number 1: LTC3204BEDC-5#TRM-ND; Packing: Mini Tape and Reel; RoHS: FALSE; Mounting Technology: Surface Mount; Code_JEDEC: MO-229; ComponentLink1Description: Manufacturer URL; ComponentLink1URL: http://www.linear.com/; ComponentLink2Description: Datasheet; ComponentLink2URL: http://cds.linear.com/docs/en/datasheet/3204fa.pdf; ComponentLink3Description: Package Specification; ComponentLink3URL: http://cds.linear.com/docs/en/packaging/DFN_6_05-08-1703.pdf
footprint LT-DC6-6_V (SON, 6-Leads, Body 2x2mm, Pitch 0.5mm, Thermal Pad 1.42x0.61mm)
pins: 1 GND (power) "Ground.", 2 VIN (power) "Input Supply Voltage.", 3 VOUT (power) "Regulated Output Voltage.", 4 C+ "Flying Capacitor Positive Terminal.", 5 C- "Flying Capacitor Negative Terminal.", 6 ~{SHDN} (in), 7 EP (power) "Ground."